# Altium integrated library Analog Devices Switches and Multiplexers Multiplexers (Muxes).IntLib: 481 symbols (part 16 of 23)
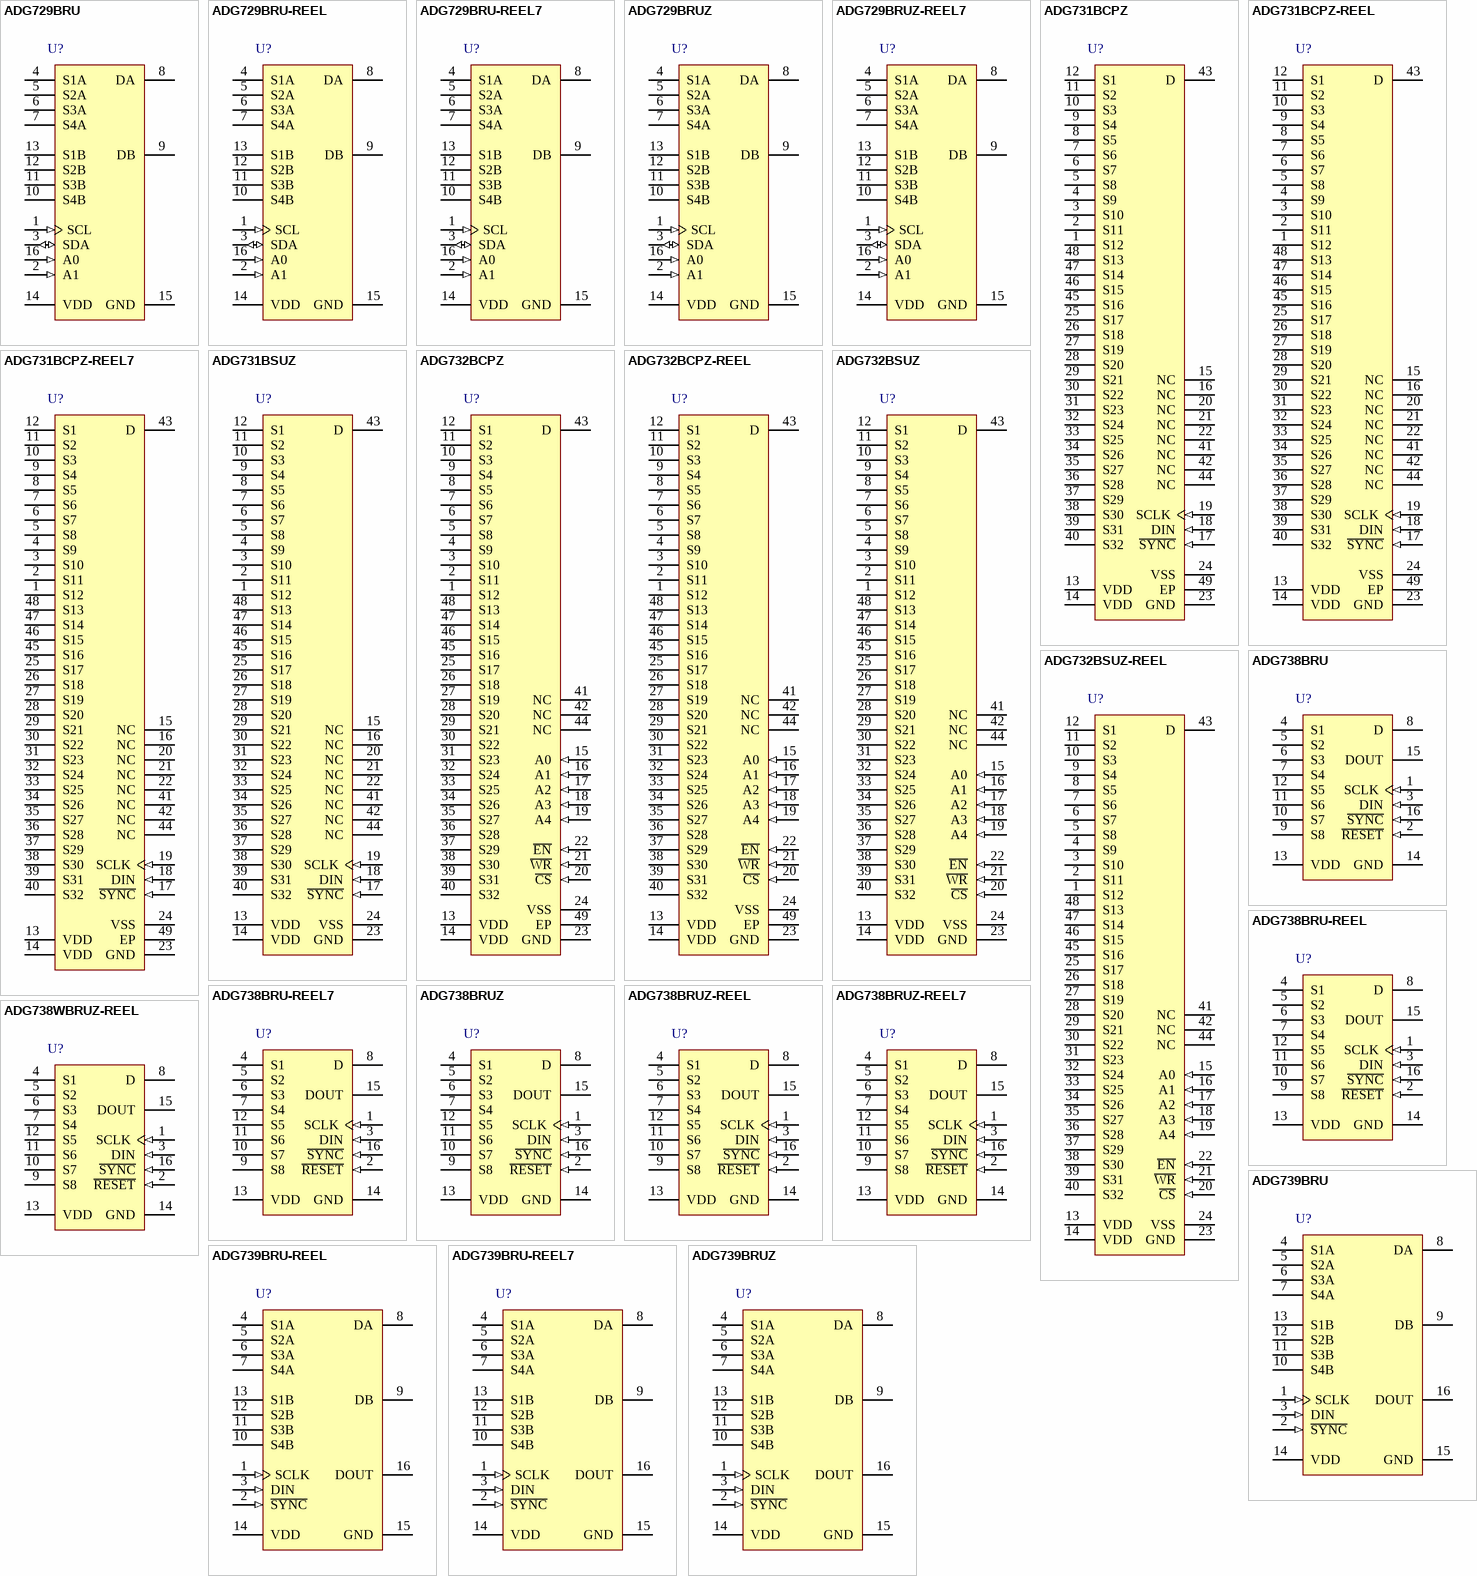
[diagram p32: symbols ADG729BRU to ADG739BRUZ]

## ADG738WBRUZ-REEL
designator U?
CMOS, Low-Voltage, 3-Wire Serially-Controlled, Matrix Switch, -40 to 85 degC, 16-pin SOP (RU-16), Reel; Manufacturer: Analog Devices; PartNumber: ADG738WBRUZ-REEL; Bandwidth (Hz): 65M; Max Analog Signal Range: 0 to Vdd; Ron (ohms): 2.5; Supply V Guar Performance: Single_(+3V), Single_(+5V); DatasheetVersion: Rev. 0; PackageVersion: Nov-02; PackageReference: RU-16; PackageDescription: 16-Pin Thin Shrink Small Outline Package, Body 5 x 4.4 mm, Pitch 0.65 mm; Supplier 1: Mouser; Supplier Part Number 1: N/A; Packing: Reel; Mounting Technology: Surface Mount; Code_JEDEC: MO-153AB; ComponentLink1Description: Manufacturer URL; ComponentLink1URL: http://www.analog.com/en/index.html; ComponentLink2Description: Datasheet; ComponentLink2URL: http://www.analog.com/static/imported-files/data_sheets/ADG738_739.pdf; ComponentLink3Description: Package Specification; ComponentLink3URL: http:/www.analog.com/static/imported-files/packages/36244347913743854010197452789RU16.pdf
footprint ADI-RU-16_N (SOP, 16-Leads, Body 5x4.4mm, Pitch 0.65mm, IPC Medium Density)
footprint ADI-RU-16_L (SOP, 16-Leads, Body 5x4.4mm, Pitch 0.65mm, IPC High Density)
footprint ADI-RU-16_M (SOP, 16-Leads, Body 5x4.4mm, Pitch 0.65mm, IPC Low Density)
pins: 1 SCLK (in) "Serial Clock Input. Data is clocked into the input shift register on the falling edge of the serial clock input. These devices can accommodate serial input rates of up to 30 MHz.", 2 ~{RESET} (in) "Active low control input that clears the input register and turns all switches to the OFF condition.", 3 DIN (in) "Serial Data Input. Data is clocked into the 8-bit input register on the falling edge of the serial clock input.", 4 S1 "Source. May be an input or output.", 5 S2 "Source. May be an input or output.", 6 S3 "Source. May be an input or output.", 7 S4 "Source. May be an input or output.", 8 D "Drain. May be an input or output.", 9 S8 "Source. May be an input or output.", 10 S7 "Source. May be an input or output.", 11 S6 "Source. May be an input or output.", 12 S5 "Source. May be an input or output.", 13 VDD (power) "Power Supply Input. These parts can be operated from a supply of 2.7 V to 5.5 V.", 14 GND (power) "Ground Reference.", 15 DOUT (oc) "Data Output. This allows a number a parts to be daisy-chained. Data is clocked out of the input shift register on the rising edge of SCLK. This is an open drain output which should be pulled to the supply with an external (See Datasheet)", 16 ~{SYNC} (in) "Active Low Control Input. This is the frame synchronization signal for the input data. When S\Y\N\C\ goes low, it powers on the SCLK and DIN buffers and the input shift register is enabled. Data is transferred on the falling (See Datasheet)"

## ADG739BRU
designator U?
CMOS, Low-Voltage, 3-Wire Serially-Controlled, Matrix Switch, -40 to 85 degC, 16-pin SOP (RU-16), Tube; Manufacturer: Analog Devices; PartNumber: ADG739BRU; Bandwidth (Hz): 100M; Max Analog Signal Range: 0 to Vdd; Ron (ohms): 2.5; Supply V Guar Performance: Single_(+3V), Single_(+5V); DatasheetVersion: Rev. 0; PackageVersion: Nov-02; PackageReference: RU-16; PackageDescription: 16-Pin Thin Shrink Small Outline Package, Body 5 x 4.4 mm, Pitch 0.65 mm; Supplier 1: Digi-Key; Supplier Part Number 1: ADG739BRU-ND; Supplier 2: Mouser; Supplier Part Number 2: 584-ADG739BRU; Packing: Tube; Mounting Technology: Surface Mount; Code_JEDEC: MO-153AB; ComponentLink1Description: Manufacturer URL; ComponentLink1URL: http://www.analog.com/en/index.html; ComponentLink2Description: Datasheet; ComponentLink2URL: http://www.analog.com/static/imported-files/data_sheets/ADG738_739.pdf; ComponentLink3Description: Package Specification; ComponentLink3URL: http:/www.analog.com/static/imported-files/packages/36244347913743854010197452789RU16.pdf
footprint ADI-RU-16_N (SOP, 16-Leads, Body 5x4.4mm, Pitch 0.65mm, IPC Medium Density)
footprint ADI-RU-16_L (SOP, 16-Leads, Body 5x4.4mm, Pitch 0.65mm, IPC High Density)
footprint ADI-RU-16_M (SOP, 16-Leads, Body 5x4.4mm, Pitch 0.65mm, IPC Low Density)
pins: 1 SCLK (in) "Serial Clock Input. Data is clocked into the input shift register on the falling edge of the serial clock input. These devices can accommodate serial input rates of up to 30 MHz.", 2 ~{SYNC} (in) "Active Low Control Input. This is the frame synchronization signal for the input data.When S\Y\N\C\ goes low, it powers on the SCLK and DIN buffers and the input shift register is enabled. Data is transferred on the falling (See Datasheet)", 3 DIN (in) "Serial Data Input. Data is clocked into the 8-bit input register on the falling edge of the serial clock input.", 4 S1A "Source. May be an input or output.", 5 S2A "Source. May be an input or output.", 6 S3A "Source. May be an input or output.", 7 S4A "Source. May be an input or output.", 8 DA "Drain. May be an input or output.", 9 DB "Drain. May be an input or output.", 10 S4B "Source. May be an input or output.", 11 S3B "Source. May be an input or output.", 12 S2B "Source. May be an input or output.", 13 S1B "Source. May be an input or output.", 14 VDD (power) "Power Supply Input. These parts can be operated from a supply of 2.7 V to 5.5 V.", 15 GND (power) "Ground Reference.", 16 DOUT (oc) "Data Output. This allows a number a parts to be daisy-chained. Data is clocked out of the input shift register on the rising edge of SCLK. This is an open drain output which should be pulled to the supply with an external (See Datasheet)"

## ADG739BRU-REEL
designator U?
CMOS, Low-Voltage, 3-Wire Serially-Controlled, Matrix Switch, -40 to 85 degC, 16-pin SOP (RU-16), Reel; Manufacturer: Analog Devices; PartNumber: ADG739BRU-REEL; Bandwidth (Hz): 100M; Max Analog Signal Range: 0 to Vdd; Ron (ohms): 2.5; Supply V Guar Performance: Single_(+3V), Single_(+5V); DatasheetVersion: Rev. 0; PackageVersion: Nov-02; PackageReference: RU-16; PackageDescription: 16-Pin Thin Shrink Small Outline Package, Body 5 x 4.4 mm, Pitch 0.65 mm; Supplier 1: Digi-Key; Supplier Part Number 1: ADG739BRU-REEL-ND; Packing: Reel; Mounting Technology: Surface Mount; Code_JEDEC: MO-153AB; ComponentLink1Description: Manufacturer URL; ComponentLink1URL: http://www.analog.com/en/index.html; ComponentLink2Description: Datasheet; ComponentLink2URL: http://www.analog.com/static/imported-files/data_sheets/ADG738_739.pdf; ComponentLink3Description: Package Specification; ComponentLink3URL: http:/www.analog.com/static/imported-files/packages/36244347913743854010197452789RU16.pdf
footprint ADI-RU-16_N (SOP, 16-Leads, Body 5x4.4mm, Pitch 0.65mm, IPC Medium Density)
footprint ADI-RU-16_L (SOP, 16-Leads, Body 5x4.4mm, Pitch 0.65mm, IPC High Density)
footprint ADI-RU-16_M (SOP, 16-Leads, Body 5x4.4mm, Pitch 0.65mm, IPC Low Density)
pins: 1 SCLK (in) "Serial Clock Input. Data is clocked into the input shift register on the falling edge of the serial clock input. These devices can accommodate serial input rates of up to 30 MHz.", 2 ~{SYNC} (in) "Active Low Control Input. This is the frame synchronization signal for the input data.When S\Y\N\C\ goes low, it powers on the SCLK and DIN buffers and the input shift register is enabled. Data is transferred on the falling (See Datasheet)", 3 DIN (in) "Serial Data Input. Data is clocked into the 8-bit input register on the falling edge of the serial clock input.", 4 S1A "Source. May be an input or output.", 5 S2A "Source. May be an input or output.", 6 S3A "Source. May be an input or output.", 7 S4A "Source. May be an input or output.", 8 DA "Drain. May be an input or output.", 9 DB "Drain. May be an input or output.", 10 S4B "Source. May be an input or output.", 11 S3B "Source. May be an input or output.", 12 S2B "Source. May be an input or output.", 13 S1B "Source. May be an input or output.", 14 VDD (power) "Power Supply Input. These parts can be operated from a supply of 2.7 V to 5.5 V.", 15 GND (power) "Ground Reference.", 16 DOUT (oc) "Data Output. This allows a number a parts to be daisy-chained. Data is clocked out of the input shift register on the rising edge of SCLK. This is an open drain output which should be pulled to the supply with an external (See Datasheet)"

## ADG739BRU-REEL7
designator U?
CMOS, Low-Voltage, 3-Wire Serially-Controlled, Matrix Switch, -40 to 85 degC, 16-pin SOP (RU-16), Reel; Manufacturer: Analog Devices; PartNumber: ADG739BRU-REEL7; Bandwidth (Hz): 100M; Max Analog Signal Range: 0 to Vdd; Ron (ohms): 2.5; Supply V Guar Performance: Single_(+3V), Single_(+5V); DatasheetVersion: Rev. 0; PackageVersion: Nov-02; PackageReference: RU-16; PackageDescription: 16-Pin Thin Shrink Small Outline Package, Body 5 x 4.4 mm, Pitch 0.65 mm; Supplier 1: Digi-Key; Supplier Part Number 1: ADG739BRU-REEL7-ND; Supplier 2: Mouser; Supplier Part Number 2: 584-ADG739BRU-R7; Packing: Reel; Mounting Technology: Surface Mount; Code_JEDEC: MO-153AB; ComponentLink1Description: Manufacturer URL; ComponentLink1URL: http://www.analog.com/en/index.html; ComponentLink2Description: Datasheet; ComponentLink2URL: http://www.analog.com/static/imported-files/data_sheets/ADG738_739.pdf; ComponentLink3Description: Package Specification; ComponentLink3URL: http:/www.analog.com/static/imported-files/packages/36244347913743854010197452789RU16.pdf
footprint ADI-RU-16_N (SOP, 16-Leads, Body 5x4.4mm, Pitch 0.65mm, IPC Medium Density)
footprint ADI-RU-16_L (SOP, 16-Leads, Body 5x4.4mm, Pitch 0.65mm, IPC High Density)
footprint ADI-RU-16_M (SOP, 16-Leads, Body 5x4.4mm, Pitch 0.65mm, IPC Low Density)
pins: 1 SCLK (in) "Serial Clock Input. Data is clocked into the input shift register on the falling edge of the serial clock input. These devices can accommodate serial input rates of up to 30 MHz.", 2 ~{SYNC} (in) "Active Low Control Input. This is the frame synchronization signal for the input data.When S\Y\N\C\ goes low, it powers on the SCLK and DIN buffers and the input shift register is enabled. Data is transferred on the falling (See Datasheet)", 3 DIN (in) "Serial Data Input. Data is clocked into the 8-bit input register on the falling edge of the serial clock input.", 4 S1A "Source. May be an input or output.", 5 S2A "Source. May be an input or output.", 6 S3A "Source. May be an input or output.", 7 S4A "Source. May be an input or output.", 8 DA "Drain. May be an input or output.", 9 DB "Drain. May be an input or output.", 10 S4B "Source. May be an input or output.", 11 S3B "Source. May be an input or output.", 12 S2B "Source. May be an input or output.", 13 S1B "Source. May be an input or output.", 14 VDD (power) "Power Supply Input. These parts can be operated from a supply of 2.7 V to 5.5 V.", 15 GND (power) "Ground Reference.", 16 DOUT (oc) "Data Output. This allows a number a parts to be daisy-chained. Data is clocked out of the input shift register on the rising edge of SCLK. This is an open drain output which should be pulled to the supply with an external (See Datasheet)"

## ADG739BRUZ
designator U?
CMOS, Low-Voltage, 3-Wire Serially-Controlled, Matrix Switch, -40 to 85 degC, 16-pin SOP (RU-16), Tube; Manufacturer: Analog Devices; PartNumber: ADG739BRUZ; Bandwidth (Hz): 100M; Max Analog Signal Range: 0 to Vdd; Ron (ohms): 2.5; Supply V Guar Performance: Single_(+3V), Single_(+5V); DatasheetVersion: Rev. 0; PackageVersion: Nov-02; PackageReference: RU-16; PackageDescription: 16-Pin Thin Shrink Small Outline Package, Body 5 x 4.4 mm, Pitch 0.65 mm; Supplier 1: Digi-Key; Supplier Part Number 1: ADG739BRUZ-ND; Supplier 2: Farnell; Supplier Part Number 2: 1581899; Supplier 3: Newark; Supplier Part Number 3: 15P0405; Supplier 4: Newark; Supplier Part Number 4: 59K1581; Supplier 5: Mouser; Supplier Part Number 5: 584-ADG739BRUZ; Packing: Tube; Mounting Technology: Surface Mount; Code_JEDEC: MO-153AB; ComponentLink1Description: Manufacturer URL; ComponentLink1URL: http://www.analog.com/en/index.html; ComponentLink2Description: Datasheet; ComponentLink2URL: http://www.analog.com/static/imported-files/data_sheets/ADG738_739.pdf; ComponentLink3Description: Package Specification; ComponentLink3URL: http:/www.analog.com/static/imported-files/packages/36244347913743854010197452789RU16.pdf
footprint ADI-RU-16_N (SOP, 16-Leads, Body 5x4.4mm, Pitch 0.65mm, IPC Medium Density)
footprint ADI-RU-16_L (SOP, 16-Leads, Body 5x4.4mm, Pitch 0.65mm, IPC High Density)
footprint ADI-RU-16_M (SOP, 16-Leads, Body 5x4.4mm, Pitch 0.65mm, IPC Low Density)
pins: 1 SCLK (in) "Serial Clock Input. Data is clocked into the input shift register on the falling edge of the serial clock input. These devices can accommodate serial input rates of up to 30 MHz.", 2 ~{SYNC} (in) "Active Low Control Input. This is the frame synchronization signal for the input data.When S\Y\N\C\ goes low, it powers on the SCLK and DIN buffers and the input shift register is enabled. Data is transferred on the falling (See Datasheet)", 3 DIN (in) "Serial Data Input. Data is clocked into the 8-bit input register on the falling edge of the serial clock input.", 4 S1A "Source. May be an input or output.", 5 S2A "Source. May be an input or output.", 6 S3A "Source. May be an input or output.", 7 S4A "Source. May be an input or output.", 8 DA "Drain. May be an input or output.", 9 DB "Drain. May be an input or output.", 10 S4B "Source. May be an input or output.", 11 S3B "Source. May be an input or output.", 12 S2B "Source. May be an input or output.", 13 S1B "Source. May be an input or output.", 14 VDD (power) "Power Supply Input. These parts can be operated from a supply of 2.7 V to 5.5 V.", 15 GND (power) "Ground Reference.", 16 DOUT (oc) "Data Output. This allows a number a parts to be daisy-chained. Data is clocked out of the input shift register on the rising edge of SCLK. This is an open drain output which should be pulled to the supply with an external (See Datasheet)"

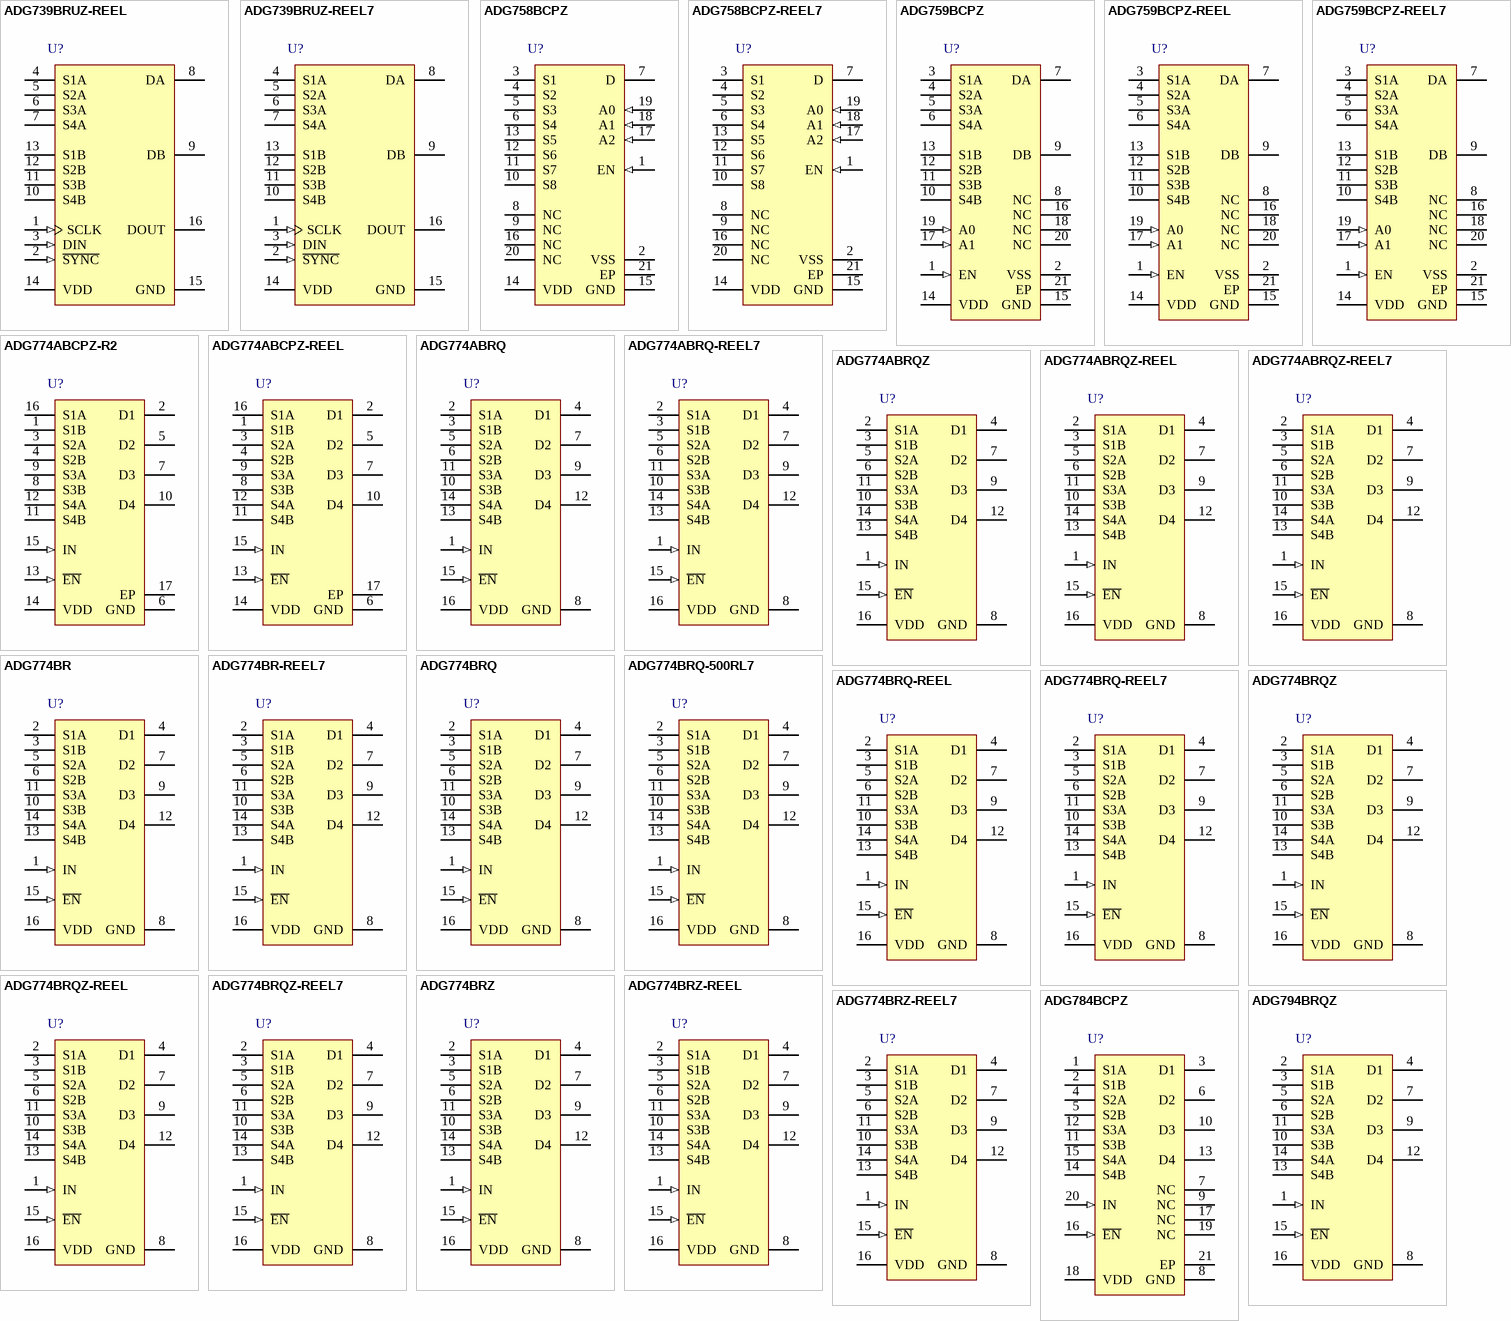
[diagram p12: symbols ADG739BRUZ-REEL to ADG794BRQZ]

## ADG739BRUZ-REEL
designator U?
CMOS, Low-Voltage, 3-Wire Serially-Controlled, Matrix Switch, -40 to 85 degC, 16-pin SOP (RU-16), Reel; Manufacturer: Analog Devices; PartNumber: ADG739BRUZ-REEL; Bandwidth (Hz): 100M; Max Analog Signal Range: 0 to Vdd; Ron (ohms): 2.5; Supply V Guar Performance: Single_(+3V), Single_(+5V); DatasheetVersion: Rev. 0; PackageVersion: Nov-02; PackageReference: RU-16; PackageDescription: 16-Pin Thin Shrink Small Outline Package, Body 5 x 4.4 mm, Pitch 0.65 mm; Supplier 1: Digi-Key; Supplier Part Number 1: ADG739BRUZ-REEL-ND; Supplier 2: Mouser; Supplier Part Number 2: 584-ADG739BRUZ-R; Packing: Reel; Mounting Technology: Surface Mount; Code_JEDEC: MO-153AB; ComponentLink1Description: Manufacturer URL; ComponentLink1URL: http://www.analog.com/en/index.html; ComponentLink2Description: Datasheet; ComponentLink2URL: http://www.analog.com/static/imported-files/data_sheets/ADG738_739.pdf; ComponentLink3Description: Package Specification; ComponentLink3URL: http:/www.analog.com/static/imported-files/packages/36244347913743854010197452789RU16.pdf
footprint ADI-RU-16_N (SOP, 16-Leads, Body 5x4.4mm, Pitch 0.65mm, IPC Medium Density)
footprint ADI-RU-16_L (SOP, 16-Leads, Body 5x4.4mm, Pitch 0.65mm, IPC High Density)
footprint ADI-RU-16_M (SOP, 16-Leads, Body 5x4.4mm, Pitch 0.65mm, IPC Low Density)
pins: 1 SCLK (in) "Serial Clock Input. Data is clocked into the input shift register on the falling edge of the serial clock input. These devices can accommodate serial input rates of up to 30 MHz.", 2 ~{SYNC} (in) "Active Low Control Input. This is the frame synchronization signal for the input data.When S\Y\N\C\ goes low, it powers on the SCLK and DIN buffers and the input shift register is enabled. Data is transferred on the falling (See Datasheet)", 3 DIN (in) "Serial Data Input. Data is clocked into the 8-bit input register on the falling edge of the serial clock input.", 4 S1A "Source. May be an input or output.", 5 S2A "Source. May be an input or output.", 6 S3A "Source. May be an input or output.", 7 S4A "Source. May be an input or output.", 8 DA "Drain. May be an input or output.", 9 DB "Drain. May be an input or output.", 10 S4B "Source. May be an input or output.", 11 S3B "Source. May be an input or output.", 12 S2B "Source. May be an input or output.", 13 S1B "Source. May be an input or output.", 14 VDD (power) "Power Supply Input. These parts can be operated from a supply of 2.7 V to 5.5 V.", 15 GND (power) "Ground Reference.", 16 DOUT (oc) "Data Output. This allows a number a parts to be daisy-chained. Data is clocked out of the input shift register on the rising edge of SCLK. This is an open drain output which should be pulled to the supply with an external (See Datasheet)"

## ADG739BRUZ-REEL7
designator U?
CMOS, Low-Voltage, 3-Wire Serially-Controlled, Matrix Switch, -40 to 85 degC, 16-pin SOP (RU-16), Reel; Manufacturer: Analog Devices; PartNumber: ADG739BRUZ-REEL7; Bandwidth (Hz): 100M; Max Analog Signal Range: 0 to Vdd; Ron (ohms): 2.5; Supply V Guar Performance: Single_(+3V), Single_(+5V); DatasheetVersion: Rev. 0; PackageVersion: Nov-02; PackageReference: RU-16; PackageDescription: 16-Pin Thin Shrink Small Outline Package, Body 5 x 4.4 mm, Pitch 0.65 mm; Supplier 1: Digi-Key; Supplier Part Number 1: ADG739BRUZ-REEL7TR-ND; Supplier 2: Digi-Key; Supplier Part Number 2: ADG739BRUZ-REEL7CT-ND; Supplier 3: Digi-Key; Supplier Part Number 3: ADG739BRUZ-REEL7DKR-ND; Supplier 4: Mouser; Supplier Part Number 4: 584-ADG739BRUZ-R7; Packing: Reel; Mounting Technology: Surface Mount; Code_JEDEC: MO-153AB; ComponentLink1Description: Manufacturer URL; ComponentLink1URL: http://www.analog.com/en/index.html; ComponentLink2Description: Datasheet; ComponentLink2URL: http://www.analog.com/static/imported-files/data_sheets/ADG738_739.pdf; ComponentLink3Description: Package Specification; ComponentLink3URL: http:/www.analog.com/static/imported-files/packages/36244347913743854010197452789RU16.pdf
footprint ADI-RU-16_N (SOP, 16-Leads, Body 5x4.4mm, Pitch 0.65mm, IPC Medium Density)
footprint ADI-RU-16_L (SOP, 16-Leads, Body 5x4.4mm, Pitch 0.65mm, IPC High Density)
footprint ADI-RU-16_M (SOP, 16-Leads, Body 5x4.4mm, Pitch 0.65mm, IPC Low Density)
pins: 1 SCLK (in) "Serial Clock Input. Data is clocked into the input shift register on the falling edge of the serial clock input. These devices can accommodate serial input rates of up to 30 MHz.", 2 ~{SYNC} (in) "Active Low Control Input. This is the frame synchronization signal for the input data.When S\Y\N\C\ goes low, it powers on the SCLK and DIN buffers and the input shift register is enabled. Data is transferred on the falling (See Datasheet)", 3 DIN (in) "Serial Data Input. Data is clocked into the 8-bit input register on the falling edge of the serial clock input.", 4 S1A "Source. May be an input or output.", 5 S2A "Source. May be an input or output.", 6 S3A "Source. May be an input or output.", 7 S4A "Source. May be an input or output.", 8 DA "Drain. May be an input or output.", 9 DB "Drain. May be an input or output.", 10 S4B "Source. May be an input or output.", 11 S3B "Source. May be an input or output.", 12 S2B "Source. May be an input or output.", 13 S1B "Source. May be an input or output.", 14 VDD (power) "Power Supply Input. These parts can be operated from a supply of 2.7 V to 5.5 V.", 15 GND (power) "Ground Reference.", 16 DOUT (oc) "Data Output. This allows a number a parts to be daisy-chained. Data is clocked out of the input shift register on the rising edge of SCLK. This is an open drain output which should be pulled to the supply with an external (See Datasheet)"

## ADG758BCPZ
designator U?
3 Ohm, 8-Channel Multiplexer in Chip Scale Package, -40 to 85 degC, 20-pin QFN (CP-20-1), Tray; Manufacturer: Analog Devices; PartNumber: ADG758BCPZ; Bandwidth (Hz): 55M; Max Analog Signal Range: Vss to Vdd; Ron (ohms): 3; Supply V Guar Performance: Dual_(+/-2.5V), Single_(+3V), Single_(+5V); t transition (s): 14n; DatasheetVersion: Rev. A; PackageVersion: 061708-A, 07/2011; PackageReference: CP-20-6; PackageDescription: 20-Pin Lead Frame Chip Scale Package, Body 4 x 4 mm, Pitch 0.5 mm; Supplier 1: Digi-Key; Supplier Part Number 1: ADG758BCPZ-ND; Supplier 2: Farnell; Supplier Part Number 2: 2305802; Supplier 3: Newark; Supplier Part Number 3: 59K1595; Supplier 4: Mouser; Supplier Part Number 4: 584-ADG758BCPZ; Packing: TRAY; Mounting Technology: Surface Mount; Code_JEDEC: MO-220; ComponentLink1Description: Manufacturer URL; ComponentLink1URL: http://www.analog.com/en/index.html; ComponentLink2Description: Datasheet; ComponentLink2URL: http://www.analog.com/static/imported-files/data_sheets/ADG758_759.pdf; ComponentLink3Description: Package Specification; ComponentLink3URL: http://www.analog.com/static/imported-files/packages/PKG_PDF/LFCSP(CP)/CP_20_6.pdf
footprint ADI-CP-20-6_N (QFN, 20-Leads, Body 4x4mm, Pitch 0.5mm, Thermal Pad 2.15x2.15mm, IPC Medium Density)
footprint ADI-CP-20-6_L (QFN, 20-Leads, Body 4x4mm, Pitch 0.5mm, Thermal Pad 2.15x2.15mm, IPC High Density)
footprint ADI-CP-20-6_M (QFN, 20-Leads, Body 4x4mm, Pitch 0.5mm, Thermal Pad 2.15x2.15mm, IPC Low Density)
pins: 1 EN (in) "Delay Time between the 50% and 90% points of the EN digital input and the switch ON condition.Delay Time between the 50% and 90% points of the EN digital input and the switch OFF condition.", 2 VSS (power) "Most Negative Power Supply in a dual-supply application. In single-supply applications, this should be tied to ground at the device.", 3 S1 "Source Terminal. May be an input or output.", 4 S2 "Source Terminal. May be an input or output.", 5 S3 "Source Terminal. May be an input or output.", 6 S4 "Source Terminal. May be an input or output.", 7 D "Drain Terminal. May be an input or output.", 8 NC "No connect.", 9 NC "No connect.", 10 S8 "Source Terminal. May be an input or output.", 11 S7 "Source Terminal. May be an input or output.", 12 S6 "Source Terminal. May be an input or output.", 13 S5 "Source Terminal. May be an input or output.", 14 VDD (power) "Most Positive Power Supply Potential", 15 GND (power) "Ground (0 V) Reference", 16 NC "No connect.", 17 A2 (in) "A measure of the glitch impulse transferred from the digital input to the analog output during switching.", 18 A1 (in) "A measure of unwanted signal which is coupled through from one channel to another as a result of parasitic capacitance.", 19 A0 (in) "A measure of unwanted signal coupling through an OFF switch.", 20 NC "No connect.", 21 EP (power) "Exposed pad tied to substrate,VSS."

## ADG758BCPZ-REEL7
designator U?
3 Ohm, 8-Channel Multiplexer in Chip Scale Package, -40 to 85 degC, 20-pin QFN (CP-20-1), Reel; Manufacturer: Analog Devices; PartNumber: ADG758BCPZ-REEL7; Bandwidth (Hz): 55M; Max Analog Signal Range: Vss to Vdd; Ron (ohms): 3; Supply V Guar Performance: Dual_(+/-2.5V), Single_(+3V), Single_(+5V); t transition (s): 14n; DatasheetVersion: Rev. A; PackageVersion: 061708-A, 07/2011; PackageReference: CP-20-6; PackageDescription: 20-Pin Lead Frame Chip Scale Package, Body 4 x 4 mm, Pitch 0.5 mm; Supplier 1: Digi-Key; Supplier Part Number 1: ADG758BCPZ-REEL7-ND; Supplier 2: Mouser; Supplier Part Number 2: 584-ADG758BCPZ-R7; Packing: Reel; Mounting Technology: Surface Mount; Code_JEDEC: MO-220; ComponentLink1Description: Manufacturer URL; ComponentLink1URL: http://www.analog.com/en/index.html; ComponentLink2Description: Datasheet; ComponentLink2URL: http://www.analog.com/static/imported-files/data_sheets/ADG758_759.pdf; ComponentLink3Description: Package Specification; ComponentLink3URL: http://www.analog.com/static/imported-files/packages/PKG_PDF/LFCSP(CP)/CP_20_6.pdf
footprint ADI-CP-20-6_N (QFN, 20-Leads, Body 4x4mm, Pitch 0.5mm, Thermal Pad 2.15x2.15mm, IPC Medium Density)
footprint ADI-CP-20-6_L (QFN, 20-Leads, Body 4x4mm, Pitch 0.5mm, Thermal Pad 2.15x2.15mm, IPC High Density)
footprint ADI-CP-20-6_M (QFN, 20-Leads, Body 4x4mm, Pitch 0.5mm, Thermal Pad 2.15x2.15mm, IPC Low Density)
pins: 1 EN (in) "Delay Time between the 50% and 90% points of the EN digital input and the switch ON condition.Delay Time between the 50% and 90% points of the EN digital input and the switch OFF condition.", 2 VSS (power) "Most Negative Power Supply in a dual-supply application. In single-supply applications, this should be tied to ground at the device.", 3 S1 "Source Terminal. May be an input or output.", 4 S2 "Source Terminal. May be an input or output.", 5 S3 "Source Terminal. May be an input or output.", 6 S4 "Source Terminal. May be an input or output.", 7 D "Drain Terminal. May be an input or output.", 8 NC "No connect.", 9 NC "No connect.", 10 S8 "Source Terminal. May be an input or output.", 11 S7 "Source Terminal. May be an input or output.", 12 S6 "Source Terminal. May be an input or output.", 13 S5 "Source Terminal. May be an input or output.", 14 VDD (power) "Most Positive Power Supply Potential", 15 GND (power) "Ground (0 V) Reference", 16 NC "No connect.", 17 A2 (in) "A measure of the glitch impulse transferred from the digital input to the analog output during switching.", 18 A1 (in) "A measure of unwanted signal which is coupled through from one channel to another as a result of parasitic capacitance.", 19 A0 (in) "A measure of unwanted signal coupling through an OFF switch.", 20 NC "No connect.", 21 EP (power) "Exposed pad tied to substrate,VSS."

## ADG759BCPZ
designator U?
3 Ohm, 4-Channel Multiplexer in Chip Scale Package, -40 to 85 degC, 20-pin QFN (CP-20-1), Tray; Manufacturer: Analog Devices; PartNumber: ADG759BCPZ; Bandwidth (Hz): 55M; Max Analog Signal Range: Vss to Vdd; Ron (ohms): 3; Supply V Guar Performance: Dual_(+/-2.5V), Single_(+3V), Single_(+5V); t transition (s): 14n; DatasheetVersion: Rev. A; PackageVersion: 061708-A, 07/2011; PackageReference: CP-20-6; PackageDescription: 20-Pin Lead Frame Chip Scale Package, Body 4 x 4 mm, Pitch 0.5 mm; Supplier 1: Digi-Key; Supplier Part Number 1: ADG759BCPZ-ND; Supplier 2: Farnell; Supplier Part Number 2: 2377061; Supplier 3: Newark; Supplier Part Number 3: 23X5962; Supplier 4: Newark; Supplier Part Number 4: 59K1597; Supplier 5: Mouser; Supplier Part Number 5: 584-ADG759BCPZ; Packing: Tray; Mounting Technology: Surface Mount; Code_JEDEC: MO-220; ComponentLink1Description: Manufacturer URL; ComponentLink1URL: http://www.analog.com/en/index.html; ComponentLink2Description: Datasheet; ComponentLink2URL: http://www.analog.com/static/imported-files/data_sheets/ADG758_759.pdf; ComponentLink3Description: Package Specification; ComponentLink3URL: http://www.analog.com/static/imported-files/packages/PKG_PDF/LFCSP(CP)/CP_20_6.pdf
footprint ADI-CP-20-6_N (QFN, 20-Leads, Body 4x4mm, Pitch 0.5mm, Thermal Pad 2.15x2.15mm, IPC Medium Density)
footprint ADI-CP-20-6_L (QFN, 20-Leads, Body 4x4mm, Pitch 0.5mm, Thermal Pad 2.15x2.15mm, IPC High Density)
footprint ADI-CP-20-6_M (QFN, 20-Leads, Body 4x4mm, Pitch 0.5mm, Thermal Pad 2.15x2.15mm, IPC Low Density)
pins: 1 EN (in), 2 VSS (power) "Most Negative Power Supply in a dual-supply application. In single-supply applications, this should be tied to ground at the device.", 3 S1A "Source Terminal. May be an input or output.", 4 S2A "Source Terminal. May be an input or output.", 5 S3A "Source Terminal. May be an input or output.", 6 S4A "Source Terminal. May be an input or output.", 7 DA "Drain Terminal. May be an input or output.", 8 NC, 9 DB "Drain Terminal. May be an input or output.", 10 S4B "Source Terminal. May be an input or output.", 11 S3B "Source Terminal. May be an input or output.", 12 S2B "Source Terminal. May be an input or output.", 13 S1B "Source Terminal. May be an input or output.", 14 VDD (power) "Most Positive Power Supply Potential", 15 GND (power) "Ground (0 V) Reference", 16 NC, 17 A1 (in), 18 NC, 19 A0 (in), 20 NC, 21 EP (power)

## ADG759BCPZ-REEL
designator U?
3 Ohm, 4-Channel Multiplexer in Chip Scale Package, -40 to 85 degC, 20-pin QFN (CP-20-1), Reel; Manufacturer: Analog Devices; PartNumber: ADG759BCPZ-REEL; Bandwidth (Hz): 55M; Max Analog Signal Range: Vss to Vdd; Ron (ohms): 3; Supply V Guar Performance: Dual_(+/-2.5V), Single_(+3V), Single_(+5V); t transition (s): 14n; DatasheetVersion: Rev. A; PackageVersion: 061708-A, 07/2011; PackageReference: CP-20-6; PackageDescription: 20-Pin Lead Frame Chip Scale Package, Body 4 x 4 mm, Pitch 0.5 mm; Supplier 1: Digi-Key; Supplier Part Number 1: ADG759BCPZ-REEL-ND; Supplier 2: Newark; Supplier Part Number 2: 59K1598; Supplier 3: Mouser; Supplier Part Number 3: 584-ADG759BCPZ-R; Packing: Reel; Mounting Technology: Surface Mount; Code_JEDEC: MO-220; ComponentLink1Description: Manufacturer URL; ComponentLink1URL: http://www.analog.com/en/index.html; ComponentLink2Description: Datasheet; ComponentLink2URL: http://www.analog.com/static/imported-files/data_sheets/ADG758_759.pdf; ComponentLink3Description: Package Specification; ComponentLink3URL: http://www.analog.com/static/imported-files/packages/PKG_PDF/LFCSP(CP)/CP_20_6.pdf
footprint ADI-CP-20-6_N (QFN, 20-Leads, Body 4x4mm, Pitch 0.5mm, Thermal Pad 2.15x2.15mm, IPC Medium Density)
footprint ADI-CP-20-6_L (QFN, 20-Leads, Body 4x4mm, Pitch 0.5mm, Thermal Pad 2.15x2.15mm, IPC High Density)
footprint ADI-CP-20-6_M (QFN, 20-Leads, Body 4x4mm, Pitch 0.5mm, Thermal Pad 2.15x2.15mm, IPC Low Density)
pins: 1 EN (in), 2 VSS (power) "Most Negative Power Supply in a dual-supply application. In single-supply applications, this should be tied to ground at the device.", 3 S1A "Source Terminal. May be an input or output.", 4 S2A "Source Terminal. May be an input or output.", 5 S3A "Source Terminal. May be an input or output.", 6 S4A "Source Terminal. May be an input or output.", 7 DA "Drain Terminal. May be an input or output.", 8 NC, 9 DB "Drain Terminal. May be an input or output.", 10 S4B "Source Terminal. May be an input or output.", 11 S3B "Source Terminal. May be an input or output.", 12 S2B "Source Terminal. May be an input or output.", 13 S1B "Source Terminal. May be an input or output.", 14 VDD (power) "Most Positive Power Supply Potential", 15 GND (power) "Ground (0 V) Reference", 16 NC, 17 A1 (in), 18 NC, 19 A0 (in), 20 NC, 21 EP (power)

## ADG759BCPZ-REEL7
designator U?
3 Ohm, 4-Channel Multiplexer in Chip Scale Package, -40 to 85 degC, 20-pin QFN (CP-20-1), Reel; Manufacturer: Analog Devices; PartNumber: ADG759BCPZ-REEL7; Bandwidth (Hz): 55M; Max Analog Signal Range: Vss to Vdd; Ron (ohms): 3; Supply V Guar Performance: Dual_(+/-2.5V), Single_(+3V), Single_(+5V); t transition (s): 14n; DatasheetVersion: Rev. A; PackageVersion: 061708-A, 07/2011; PackageReference: CP-20-6; PackageDescription: 20-Pin Lead Frame Chip Scale Package, Body 4 x 4 mm, Pitch 0.5 mm; Supplier 1: Digi-Key; Supplier Part Number 1: ADG759BCPZ-REEL7-ND; Supplier 2: Mouser; Supplier Part Number 2: 584-ADG759BCPZ-R7; Packing: Reel; Mounting Technology: Surface Mount; Code_JEDEC: MO-220; ComponentLink1Description: Manufacturer URL; ComponentLink1URL: http://www.analog.com/en/index.html; ComponentLink2Description: Datasheet; ComponentLink2URL: http://www.analog.com/static/imported-files/data_sheets/ADG758_759.pdf; ComponentLink3Description: Package Specification; ComponentLink3URL: http://www.analog.com/static/imported-files/packages/PKG_PDF/LFCSP(CP)/CP_20_6.pdf
footprint ADI-CP-20-6_N (QFN, 20-Leads, Body 4x4mm, Pitch 0.5mm, Thermal Pad 2.15x2.15mm, IPC Medium Density)
footprint ADI-CP-20-6_L (QFN, 20-Leads, Body 4x4mm, Pitch 0.5mm, Thermal Pad 2.15x2.15mm, IPC High Density)
footprint ADI-CP-20-6_M (QFN, 20-Leads, Body 4x4mm, Pitch 0.5mm, Thermal Pad 2.15x2.15mm, IPC Low Density)
pins: 1 EN (in), 2 VSS (power) "Most Negative Power Supply in a dual-supply application. In single-supply applications, this should be tied to ground at the device.", 3 S1A "Source Terminal. May be an input or output.", 4 S2A "Source Terminal. May be an input or output.", 5 S3A "Source Terminal. May be an input or output.", 6 S4A "Source Terminal. May be an input or output.", 7 DA "Drain Terminal. May be an input or output.", 8 NC, 9 DB "Drain Terminal. May be an input or output.", 10 S4B "Source Terminal. May be an input or output.", 11 S3B "Source Terminal. May be an input or output.", 12 S2B "Source Terminal. May be an input or output.", 13 S1B "Source Terminal. May be an input or output.", 14 VDD (power) "Most Positive Power Supply Potential", 15 GND (power) "Ground (0 V) Reference", 16 NC, 17 A1 (in), 18 NC, 19 A0 (in), 20 NC, 21 EP (power)

## ADG774ABCPZ-R2
designator U?
Low Voltage, 400 MHz, Quad 2:1 Mux with 3 ns Switching Time, -40 to 85 degC, 16-pin QFN (CP-16-3), Reel; Manufacturer: Analog Devices; PartNumber: ADG774ABCPZ-R2; Bandwidth (Hz): 400M; Max Analog Signal Range: 0 to Vdd/2; Ron (ohms): 2.2; Supply V Guar Performance: Single_(+3V), Single_(+5V); DatasheetVersion: Rev. B; PackageReference: CP-16-3; PackageDescription: 16-Pin Lead Frame Chip Scale Package, Body 3 x 3 mm, Pitch 0.5 mm; Supplier 1: Digi-Key; Supplier Part Number 1: ADG774ABCPZ-R2TR-ND; Supplier 2: Digi-Key; Supplier Part Number 2: ADG774ABCPZ-R2CT-ND; Supplier 3: Digi-Key; Supplier Part Number 3: ADG774ABCPZ-R2DKR-ND; Supplier 4: Newark; Supplier Part Number 4: 24R8958; Supplier 5: Mouser; Supplier Part Number 5: 584-ADG774ABCPZ-R2; Packing: Reel; Mounting Technology: Surface Mount; Code_JEDEC: MO-220-VEED-2; ComponentLink1Description: Manufacturer URL; ComponentLink1URL: http://www.analog.com/en/index.html; ComponentLink2Description: Datasheet; ComponentLink2URL: http://www.analog.com/static/imported-files/data_sheets/ADG774A.pdf; ComponentLink3Description: Package Specification; ComponentLink3URL: http://www.analog.com/static/imported-files/packages/PKG_PDF/LFCSP(CP)/CP_16_3.pdf
footprint ADI-CP-16-3_N (QFN, 16-Leads, Body 3x3mm, Pitch 0.5mm, Thermal Pad 1.5x1.5mm, IPC Medium Density)
footprint ADI-CP-16-3_L (QFN, 16-Leads, Body 3x3mm, Pitch 0.5mm, Thermal Pad 1.5x1.5mm, IPC High Density)
footprint ADI-CP-16-3_M (QFN, 16-Leads, Body 3x3mm, Pitch 0.5mm, Thermal Pad 1.5x1.5mm, IPC Low Density)
pins: 1 S1B "Source Terminal 1B May be an input or output.", 2 D1 "Drain Terminal D1. May be an input or output.", 3 S2A "Source Terminal 2A. May be an input or output.", 4 S2B "Source Terminal 2B. May be an input or output.", 5 D2 "Drain Terminal D2. May be an input or output.", 6 GND (power) "Ground (0 V) Reference.", 7 D3 "Drain Terminal D3. May be an input or output.", 8 S3B "Source Terminal 3B. May be an input or output.", 9 S3A "Source Terminal 3A. May be an input or output.", 10 D4 "Drain Terminal D4. May be an input or output.", 11 S4B "Source Terminal 4B. May be an input or output.", 12 S4A "Source Terminal 4A. May be an input or output.", 13 ~{EN} (in) "Logic Control Input. When high, all switches are disabled.", 14 VDD (power) "Most Positive Power Supply Potential.", 15 IN (in) "Logic Control Input.", 16 S1A "Source Terminal 1A. May be an input or output.", 17 EP (power) "The exposed pad should be tied to GND."

## ADG774ABCPZ-REEL
designator U?
Low Voltage, 400 MHz, Quad 2:1 Mux with 3 ns Switching Time, -40 to 85 degC, 16-pin QFN (CP-16-3), Reel; Manufacturer: Analog Devices; PartNumber: ADG774ABCPZ-REEL; Bandwidth (Hz): 400M; Max Analog Signal Range: 0 to Vdd/2; Ron (ohms): 2.2; Supply V Guar Performance: Single_(+3V), Single_(+5V); DatasheetVersion: Rev. B; PackageReference: CP-16-3; PackageDescription: 16-Pin Lead Frame Chip Scale Package, Body 3 x 3 mm, Pitch 0.5 mm; Supplier 1: Digi-Key; Supplier Part Number 1: ADG774ABCPZ-REEL-ND; Supplier 2: Newark; Supplier Part Number 2: 61M3941; Supplier 3: Mouser; Supplier Part Number 3: 584-ADG774ABCPZ-R; Packing: Reel; Mounting Technology: Surface Mount; Code_JEDEC: MO-220-VEED-2; ComponentLink1Description: Manufacturer URL; ComponentLink1URL: http://www.analog.com/en/index.html; ComponentLink2Description: Datasheet; ComponentLink2URL: http://www.analog.com/static/imported-files/data_sheets/ADG774A.pdf; ComponentLink3Description: Package Specification; ComponentLink3URL: http://www.analog.com/static/imported-files/packages/PKG_PDF/LFCSP(CP)/CP_16_3.pdf
footprint ADI-CP-16-3_N (QFN, 16-Leads, Body 3x3mm, Pitch 0.5mm, Thermal Pad 1.5x1.5mm, IPC Medium Density)
footprint ADI-CP-16-3_L (QFN, 16-Leads, Body 3x3mm, Pitch 0.5mm, Thermal Pad 1.5x1.5mm, IPC High Density)
footprint ADI-CP-16-3_M (QFN, 16-Leads, Body 3x3mm, Pitch 0.5mm, Thermal Pad 1.5x1.5mm, IPC Low Density)
pins: 1 S1B "Source Terminal 1B May be an input or output.", 2 D1 "Drain Terminal D1. May be an input or output.", 3 S2A "Source Terminal 2A. May be an input or output.", 4 S2B "Source Terminal 2B. May be an input or output.", 5 D2 "Drain Terminal D2. May be an input or output.", 6 GND (power) "Ground (0 V) Reference.", 7 D3 "Drain Terminal D3. May be an input or output.", 8 S3B "Source Terminal 3B. May be an input or output.", 9 S3A "Source Terminal 3A. May be an input or output.", 10 D4 "Drain Terminal D4. May be an input or output.", 11 S4B "Source Terminal 4B. May be an input or output.", 12 S4A "Source Terminal 4A. May be an input or output.", 13 ~{EN} (in) "Logic Control Input. When high, all switches are disabled.", 14 VDD (power) "Most Positive Power Supply Potential.", 15 IN (in) "Logic Control Input.", 16 S1A "Source Terminal 1A. May be an input or output.", 17 EP (power) "The exposed pad should be tied to GND."

## ADG774ABRQ
designator U?
Low Voltage, 400 MHz, Quad 2:1 Mux with 3 ns Switching Time, -40 to 85 degC, 16-pin SOP (RQ-16), Tube; Manufacturer: Analog Devices; PartNumber: ADG774ABRQ; Bandwidth (Hz): 400M; Max Analog Signal Range: 0 to Vdd/2; Ron (ohms): 2.2; Supply V Guar Performance: Single_(+3V), Single_(+5V); DatasheetVersion: Rev. B; PackageVersion: Aug-05; PackageReference: RQ-16; PackageDescription: 16-Pin Shrink Small Outline Package, Body 4.9 x 3.9 mm, Pitch 0.64 mm; Supplier 1: Digi-Key; Supplier Part Number 1: ADG774ABRQ-ND; Packing: Tube; Mounting Technology: Surface Mount; Code_JEDEC: MO-137-AB; ComponentLink1Description: Manufacturer URL; ComponentLink1URL: http://www.analog.com/en/index.html; ComponentLink2Description: Datasheet; ComponentLink2URL: http://www.analog.com/static/imported-files/data_sheets/ADG774A.pdf; ComponentLink3Description: Package Specification; ComponentLink3URL: http://www.analog.com/static/imported-files/packages/5595549651201762937RQ_16.pdf
footprint ADI-RQ-16_N (SOP, 16-Leads, Body 4.9x3.9mm, Pitch 0.64mm, IPC Medium Density)
footprint ADI-RQ-16_L (SOP, 16-Leads, Body 4.9x3.9mm, Pitch 0.64mm, IPC High Density)
footprint ADI-RQ-16_M (SOP, 16-Leads, Body 4.9x3.9mm, Pitch 0.64mm, IPC Low Density)
pins: 1 IN (in) "Logic Control Input.", 2 S1A "Source Terminal. May be an input or output.", 3 S1B "Source Terminal. May be an input or output.", 4 D1 "Drain Terminal. May be an input or output.", 5 S2A "Source Terminal. May be an input or output.", 6 S2B "Source Terminal. May be an input or output.", 7 D2 "Drain Terminal. May be an input or output.", 8 GND (power) "Ground (0 V) Reference.", 9 D3 "Drain Terminal. May be an input or output.", 10 S3B "Source Terminal. May be an input or output.", 11 S3A "Source Terminal. May be an input or output.", 12 D4 "Drain Terminal. May be an input or output.", 13 S4B "Source Terminal. May be an input or output.", 14 S4A "Source Terminal. May be an input or output.", 15 ~{EN} (in) "Logic Control Input.", 16 VDD (power) "Most Positive Power Supply Potential."

## ADG774ABRQ-REEL7
designator U?
Low Voltage, 400 MHz, Quad 2:1 Mux with 3 ns Switching Time, -40 to 85 degC, 16-pin SOP (RQ-16), Reel; Manufacturer: Analog Devices; PartNumber: ADG774ABRQ-REEL7; Bandwidth (Hz): 400M; Max Analog Signal Range: 0 to Vdd/2; Ron (ohms): 2.2; Supply V Guar Performance: Single_(+3V), Single_(+5V); DatasheetVersion: Rev. B; PackageVersion: Aug-05; PackageReference: RQ-16; PackageDescription: 16-Pin Shrink Small Outline Package, Body 4.9 x 3.9 mm, Pitch 0.64 mm; Supplier 1: Digi-Key; Supplier Part Number 1: ADG774ABRQ-REEL7TR-ND; Supplier 2: Digi-Key; Supplier Part Number 2: ADG774ABRQ-REEL7CT-ND; Supplier 3: Digi-Key; Supplier Part Number 3: ADG774ABRQ-REEL7DKR-ND; Supplier 4: Newark; Supplier Part Number 4: 02H0912; Supplier 5: Mouser; Supplier Part Number 5: 584-ADG774ABRQ-R7; Packing: Reel; Mounting Technology: Surface Mount; Code_JEDEC: MO-137-AB; ComponentLink1Description: Manufacturer URL; ComponentLink1URL: http://www.analog.com/en/index.html; ComponentLink2Description: Datasheet; ComponentLink2URL: http://www.analog.com/static/imported-files/data_sheets/ADG774A.pdf; ComponentLink3Description: Package Specification; ComponentLink3URL: http://www.analog.com/static/imported-files/packages/5595549651201762937RQ_16.pdf
footprint ADI-RQ-16_N (SOP, 16-Leads, Body 4.9x3.9mm, Pitch 0.64mm, IPC Medium Density)
footprint ADI-RQ-16_L (SOP, 16-Leads, Body 4.9x3.9mm, Pitch 0.64mm, IPC High Density)
footprint ADI-RQ-16_M (SOP, 16-Leads, Body 4.9x3.9mm, Pitch 0.64mm, IPC Low Density)
pins: 1 IN (in) "Logic Control Input.", 2 S1A "Source Terminal. May be an input or output.", 3 S1B "Source Terminal. May be an input or output.", 4 D1 "Drain Terminal. May be an input or output.", 5 S2A "Source Terminal. May be an input or output.", 6 S2B "Source Terminal. May be an input or output.", 7 D2 "Drain Terminal. May be an input or output.", 8 GND (power) "Ground (0 V) Reference.", 9 D3 "Drain Terminal. May be an input or output.", 10 S3B "Source Terminal. May be an input or output.", 11 S3A "Source Terminal. May be an input or output.", 12 D4 "Drain Terminal. May be an input or output.", 13 S4B "Source Terminal. May be an input or output.", 14 S4A "Source Terminal. May be an input or output.", 15 ~{EN} (in) "Logic Control Input.", 16 VDD (power) "Most Positive Power Supply Potential."

## ADG774ABRQZ
designator U?
Low Voltage, 400 MHz, Quad 2:1 Mux with 3 ns Switching Time, -40 to 85 degC, 16-pin SOP (RQ-16), Tube; Manufacturer: Analog Devices; PartNumber: ADG774ABRQZ; Bandwidth (Hz): 400M; Max Analog Signal Range: 0 to Vdd/2; Ron (ohms): 2.2; Supply V Guar Performance: Single_(+3V), Single_(+5V); DatasheetVersion: Rev. B; PackageVersion: Aug-05; PackageReference: RQ-16; PackageDescription: 16-Pin Shrink Small Outline Package, Body 4.9 x 3.9 mm, Pitch 0.64 mm; Supplier 1: Digi-Key; Supplier Part Number 1: ADG774ABRQZ-ND; Supplier 2: Farnell; Supplier Part Number 2: 1838904; Supplier 3: Newark; Supplier Part Number 3: 59K1600; Supplier 4: Mouser; Supplier Part Number 4: 584-ADG774ABRQZ; Packing: Tube; Mounting Technology: Surface Mount; Code_JEDEC: MO-137-AB; ComponentLink1Description: Manufacturer URL; ComponentLink1URL: http://www.analog.com/en/index.html; ComponentLink2Description: Datasheet; ComponentLink2URL: http://www.analog.com/static/imported-files/data_sheets/ADG774A.pdf; ComponentLink3Description: Package Specification; ComponentLink3URL: http://www.analog.com/static/imported-files/packages/5595549651201762937RQ_16.pdf
footprint ADI-RQ-16_N (SOP, 16-Leads, Body 4.9x3.9mm, Pitch 0.64mm, IPC Medium Density)
footprint ADI-RQ-16_L (SOP, 16-Leads, Body 4.9x3.9mm, Pitch 0.64mm, IPC High Density)
footprint ADI-RQ-16_M (SOP, 16-Leads, Body 4.9x3.9mm, Pitch 0.64mm, IPC Low Density)
pins: 1 IN (in) "Logic Control Input.", 2 S1A "Source Terminal. May be an input or output.", 3 S1B "Source Terminal. May be an input or output.", 4 D1 "Drain Terminal. May be an input or output.", 5 S2A "Source Terminal. May be an input or output.", 6 S2B "Source Terminal. May be an input or output.", 7 D2 "Drain Terminal. May be an input or output.", 8 GND (power) "Ground (0 V) Reference.", 9 D3 "Drain Terminal. May be an input or output.", 10 S3B "Source Terminal. May be an input or output.", 11 S3A "Source Terminal. May be an input or output.", 12 D4 "Drain Terminal. May be an input or output.", 13 S4B "Source Terminal. May be an input or output.", 14 S4A "Source Terminal. May be an input or output.", 15 ~{EN} (in) "Logic Control Input.", 16 VDD (power) "Most Positive Power Supply Potential."

## ADG774ABRQZ-REEL
designator U?
Low Voltage, 400 MHz, Quad 2:1 Mux with 3 ns Switching Time, -40 to 85 degC, 16-pin SOP (RQ-16), Reel; Manufacturer: Analog Devices; PartNumber: ADG774ABRQZ-REEL; Bandwidth (Hz): 400M; Max Analog Signal Range: 0 to Vdd/2; Ron (ohms): 2.2; Supply V Guar Performance: Single_(+3V), Single_(+5V); DatasheetVersion: Rev. B; PackageVersion: Aug-05; PackageReference: RQ-16; PackageDescription: 16-Pin Shrink Small Outline Package, Body 4.9 x 3.9 mm, Pitch 0.64 mm; Supplier 1: Digi-Key; Supplier Part Number 1: ADG774ABRQZ-REEL-ND; Supplier 2: Mouser; Supplier Part Number 2: 584-ADG774ABRQZ-R; Packing: Reel; Mounting Technology: Surface Mount; Code_JEDEC: MO-137-AB; ComponentLink1Description: Manufacturer URL; ComponentLink1URL: http://www.analog.com/en/index.html; ComponentLink2Description: Datasheet; ComponentLink2URL: http://www.analog.com/static/imported-files/data_sheets/ADG774A.pdf; ComponentLink3Description: Package Specification; ComponentLink3URL: http://www.analog.com/static/imported-files/packages/5595549651201762937RQ_16.pdf
footprint ADI-RQ-16_N (SOP, 16-Leads, Body 4.9x3.9mm, Pitch 0.64mm, IPC Medium Density)
footprint ADI-RQ-16_L (SOP, 16-Leads, Body 4.9x3.9mm, Pitch 0.64mm, IPC High Density)
footprint ADI-RQ-16_M (SOP, 16-Leads, Body 4.9x3.9mm, Pitch 0.64mm, IPC Low Density)
pins: 1 IN (in) "Logic Control Input.", 2 S1A "Source Terminal. May be an input or output.", 3 S1B "Source Terminal. May be an input or output.", 4 D1 "Drain Terminal. May be an input or output.", 5 S2A "Source Terminal. May be an input or output.", 6 S2B "Source Terminal. May be an input or output.", 7 D2 "Drain Terminal. May be an input or output.", 8 GND (power) "Ground (0 V) Reference.", 9 D3 "Drain Terminal. May be an input or output.", 10 S3B "Source Terminal. May be an input or output.", 11 S3A "Source Terminal. May be an input or output.", 12 D4 "Drain Terminal. May be an input or output.", 13 S4B "Source Terminal. May be an input or output.", 14 S4A "Source Terminal. May be an input or output.", 15 ~{EN} (in) "Logic Control Input.", 16 VDD (power) "Most Positive Power Supply Potential."

## ADG774ABRQZ-REEL7
designator U?
Low Voltage, 400 MHz, Quad 2:1 Mux with 3 ns Switching Time, -40 to 85 degC, 16-pin SOP (RQ-16), Reel; Manufacturer: Analog Devices; PartNumber: ADG774ABRQZ-REEL7; Bandwidth (Hz): 400M; Max Analog Signal Range: 0 to Vdd/2; Ron (ohms): 2.2; Supply V Guar Performance: Single_(+3V), Single_(+5V); DatasheetVersion: Rev. B; PackageVersion: Aug-05; PackageReference: RQ-16; PackageDescription: 16-Pin Shrink Small Outline Package, Body 4.9 x 3.9 mm, Pitch 0.64 mm; Supplier 1: Digi-Key; Supplier Part Number 1: ADG774ABRQZ-REEL7TR-ND; Supplier 2: Digi-Key; Supplier Part Number 2: ADG774ABRQZ-REEL7CT-ND; Supplier 3: Digi-Key; Supplier Part Number 3: ADG774ABRQZ-REEL7DKR-ND; Supplier 4: Newark; Supplier Part Number 4: 59K1602; Supplier 5: Mouser; Supplier Part Number 5: 584-ADG774ABRQZ-R7; Packing: Reel; Mounting Technology: Surface Mount; Code_JEDEC: MO-137-AB; ComponentLink1Description: Manufacturer URL; ComponentLink1URL: http://www.analog.com/en/index.html; ComponentLink2Description: Datasheet; ComponentLink2URL: http://www.analog.com/static/imported-files/data_sheets/ADG774A.pdf; ComponentLink3Description: Package Specification; ComponentLink3URL: http://www.analog.com/static/imported-files/packages/5595549651201762937RQ_16.pdf
footprint ADI-RQ-16_N (SOP, 16-Leads, Body 4.9x3.9mm, Pitch 0.64mm, IPC Medium Density)
footprint ADI-RQ-16_L (SOP, 16-Leads, Body 4.9x3.9mm, Pitch 0.64mm, IPC High Density)
footprint ADI-RQ-16_M (SOP, 16-Leads, Body 4.9x3.9mm, Pitch 0.64mm, IPC Low Density)
pins: 1 IN (in) "Logic Control Input.", 2 S1A "Source Terminal. May be an input or output.", 3 S1B "Source Terminal. May be an input or output.", 4 D1 "Drain Terminal. May be an input or output.", 5 S2A "Source Terminal. May be an input or output.", 6 S2B "Source Terminal. May be an input or output.", 7 D2 "Drain Terminal. May be an input or output.", 8 GND (power) "Ground (0 V) Reference.", 9 D3 "Drain Terminal. May be an input or output.", 10 S3B "Source Terminal. May be an input or output.", 11 S3A "Source Terminal. May be an input or output.", 12 D4 "Drain Terminal. May be an input or output.", 13 S4B "Source Terminal. May be an input or output.", 14 S4A "Source Terminal. May be an input or output.", 15 ~{EN} (in) "Logic Control Input.", 16 VDD (power) "Most Positive Power Supply Potential."